# Altium footprint library PCBLibrary.PcbLib: 38 footprints (part 1 of 3)
Each footprint in its own frame and in the unit in brackets; x right, y up, seen from the top. Pads: shape width x height; smd on the part's side, far side on the other; paste and mask are expansions set on the pad; w line width, h text height; cw(c..) or ccw(c..) is an arc to the next point about the centre after c.
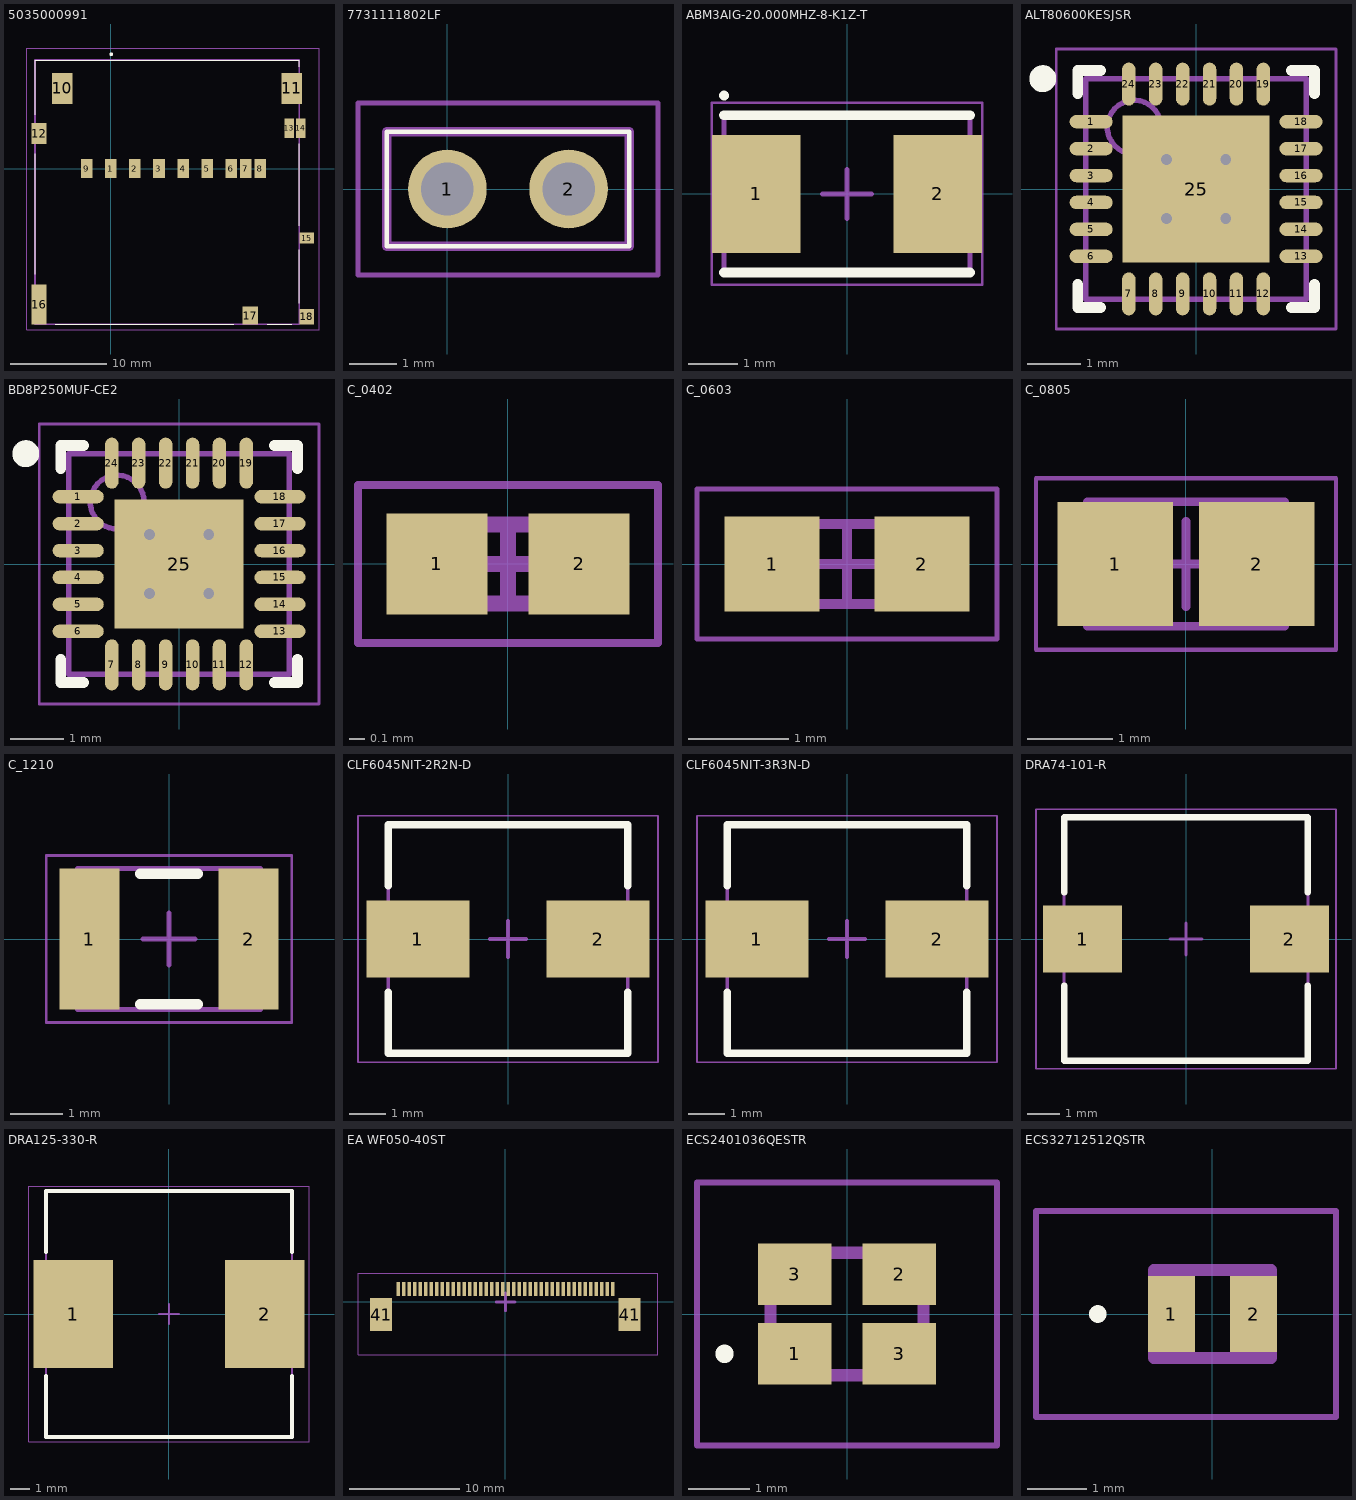
[diagram p0: the footprints below, top view; thin cyan lines are the x and y axes]

## 5035000991 [mm]
pads (18):
  rect 1.2x1.95 smd: 1(0,0) 2(2.5,0) 3(5,0) 4(7.5,0) 5(10,0) 6(12.5,0) 7(14,0) 8(15.5,0) 9(-2.5,0)
  rect 2.1x3.2 smd: 10(-5.025,8.305) 11(18.775,8.305)
  rect 1.55x2.2 smd: 12(-7.43,3.625)
  rect 1x2 smd: 13(18.495,4.165) 14(19.695,4.165)
  rect 1.5x1.1 smd: 15(20.345,-7.205)
  rect 1.55x4.17 smd: 16(-7.43,-14.11)
  rect 1.6x1.87 smd: 17(14.475,-15.26)
  rect 1.5x1.65 smd: 18(20.345,-15.37)
Top Overlay:
  lines w0.1: -7.855,-10.945 -7.855,1.555 ; -7.855,5.555 -7.855,11.255 19.545,11.255 19.545,10.555 ; -5.755,-16.145 12.745,-16.145 ; 16.245,-16.145 18.775,-16.145 ; 19.545,-13.945 19.545,-8.445 ; 19.545,-5.945 19.545,2.555
  lines w0.2: -0.055,11.855 cw(c0.045,11.855) 0.145,11.855 cw(c0.045,11.855) -0.055,11.855
Mechanical 13:
  lines w0.2: -7.855,-16.145 -7.855,11.255 19.545,11.255 19.545,-16.145 -7.855,-16.145
Mechanical 15:
  lines w0.1: -8.705,-16.695 -8.705,12.455 21.595,12.455 21.595,-16.695 -8.705,-16.695
3D body "5035000991.stp": height 3, standoff 0.05, extent -7.85,-15.84 20.75,11.96

## 7731111802LF [mm]
pads (2):
  round 1.65 hole 1.1: 1(0,0) 2(2.54,0)
Top Overlay:
  lines w0.1: -1.27,-1.2 3.81,-1.2 3.81,1.2 -1.27,1.2 -1.27,-1.2
Mechanical 13:
  lines w0.2: -1.27,-1.2 3.81,-1.2 3.81,1.2 -1.27,1.2 -1.27,-1.2
Mechanical 15:
  lines w0.1: -1.87,-1.8 4.41,-1.8 4.41,1.8 -1.87,1.8 -1.87,-1.8
3D body "77311-118-02LF.stp": height 9.04, standoff -5, extent -1.27,-1.2 3.81,1.2

## ABM3AIG-20.000MHZ-8-K1Z-T [mm] "DFN, 2-Leads, Body 3,20x5,00mm, Pitch 3,70mm, IPC Medium Density"
height 1.55
pads (2):
  rect 1.8x2.4 smd: 1(-1.85,0) 2(1.85,0)
Top Overlay:
  circle w0.1: c-2.5,2 r0.05
  lines w0.2: -2.5,-1.6 2.5,-1.6 ; -2.5,1.6 2.5,1.6
Mechanical 13:
  lines w0.1: -2.5,-1.6 -2.5,1.6 2.5,1.6 2.5,-1.6 -2.5,-1.6
Mechanical 15:
  lines w0.05: -2.75,-1.85 -2.75,1.85 2.75,1.85 2.75,-1.85 -2.75,-1.85
  lines w0.1: -0.5,0 0.5,0 ; 0,-0.5 0,0.5
3D body "ABM3AIG-20.000MHZ-8-K1Z-T.step": height 1.55, standoff 0, extent -2.5,-1.6 2.5,1.6

## ALT80600KESJSR [mm]
height 0.8
pads (25):
  oval 0.8x0.25 smd: 1(-1.95,1.25) 2(-1.95,0.75) 3(-1.95,0.25) 4(-1.95,-0.25) 5(-1.95,-0.75) 6(-1.95,-1.25) 13(1.95,-1.25) 14(1.95,-0.75) 15(1.95,-0.25) 16(1.95,0.25) 17(1.95,0.75) 18(1.95,1.25)
  oval 0.25x0.8 smd: 7(-1.25,-1.95) 8(-0.75,-1.95) 9(-0.25,-1.95) 10(0.25,-1.95) 11(0.75,-1.95) 12(1.25,-1.95) 19(1.25,1.95) 20(0.75,1.95) 21(0.25,1.95) 22(-0.25,1.95) 23(-0.75,1.95) 24(-1.25,1.95)
  rect 2.73x2.73 smd: 25(0,0)
via -0.55,0.55 diameter 0.5 hole 0.2
via 0.55,0.55 diameter 0.5 hole 0.2
via -0.55,-0.55 diameter 0.5 hole 0.2
via 0.55,-0.55 diameter 0.5 hole 0.2
Top Overlay:
  circle w0.25: c-2.85,2.05 r0.125
  lines w0.2: -2.2,-1.775 -2.2,-2.2 -1.775,-2.2 ; -2.2,1.775 -2.2,2.2 -1.775,2.2 ; 1.775,-2.2 2.2,-2.2 2.2,-1.775 ; 1.775,2.2 2.2,2.2 2.2,1.775
Mechanical 13:
  circle w0.1: c-1.15,1.15 r0.5
  lines w0.1: -2.05,-2.05 -2.05,2.05 2.05,2.05 2.05,-2.05 -2.05,-2.05
Mechanical 15:
  lines w0.05: -2.6,-2.6 -2.6,2.6 2.6,2.6 2.6,-2.6 -2.6,-2.6
  lines w0.1: -0.5,0 0.5,0 ; 0,-0.5 0,0.5
3D body "ALT80600KESJSR.step": height 0.8, standoff 0, extent -2.1,-2.1 2.1,2.1

## BD8P250MUF-CE2 [mm]
height 1
pads (25):
  oval 0.95x0.25 smd: 1(-1.875,1.25) 2(-1.875,0.75) 3(-1.875,0.25) 4(-1.875,-0.25) 5(-1.875,-0.75) 6(-1.875,-1.25) 13(1.875,-1.25) 14(1.875,-0.75) 15(1.875,-0.25) 16(1.875,0.25) 17(1.875,0.75) 18(1.875,1.25)
  oval 0.25x0.95 smd: 7(-1.25,-1.875) 8(-0.75,-1.875) 9(-0.25,-1.875) 10(0.25,-1.875) 11(0.75,-1.875) 12(1.25,-1.875) 19(1.25,1.875) 20(0.75,1.875) 21(0.25,1.875) 22(-0.25,1.875) 23(-0.75,1.875) 24(-1.25,1.875)
  rect 2.4x2.4 smd: 25(0,0)
via -0.55,0.55 diameter 0.5 hole 0.2
via 0.55,0.55 diameter 0.5 hole 0.2
via -0.55,-0.55 diameter 0.5 hole 0.2
via 0.55,-0.55 diameter 0.5 hole 0.2
Top Overlay:
  circle w0.25: c-2.85,2.05 r0.125
  lines w0.2: -2.2,-1.775 -2.2,-2.2 -1.775,-2.2 ; -2.2,1.775 -2.2,2.2 -1.775,2.2 ; 1.775,-2.2 2.2,-2.2 2.2,-1.775 ; 1.775,2.2 2.2,2.2 2.2,1.775
Mechanical 13:
  circle w0.1: c-1.15,1.15 r0.5
  lines w0.1: -2.05,-2.05 -2.05,2.05 2.05,2.05 2.05,-2.05 -2.05,-2.05
Mechanical 15:
  lines w0.05: -2.6,-2.6 -2.6,2.6 2.6,2.6 2.6,-2.6 -2.6,-2.6
  lines w0.1: -0.5,0 0.5,0 ; 0,-0.5 0,0.5
3D body "BD8P250MUF-CE2.step": height 1, standoff 0, extent -2.15,-2.15 2.15,2.15

## C_0402 [mm] "Chip Capacitor, 2-Leads, Body 1,00x0,50mm, IPC Medium Density"
height 0.5
pads (2):
  rect 0.64x0.64 smd: 1(-0.45,0) 2(0.45,0)
Mechanical 13:
  lines w0.1: -0.5,-0.25 -0.5,0.25 0.5,0.25 0.5,-0.25 -0.5,-0.25
Mechanical 15:
  lines w0.05: -0.95,-0.5 -0.95,0.5 0.95,0.5 0.95,-0.5 -0.95,-0.5
  lines w0.1: -0.25,0 0.25,0 ; 0,-0.25 0,0.25
3D body "C_0402.step": height 0.5, standoff 0, extent -0.5,-0.25 0.5,0.25

## C_0603 [mm]
height 0.8
pads (2):
  rect 0.95x0.95 smd: 1(-0.75,0) 2(0.75,0)
Mechanical 13:
  lines w0.1: -0.8,-0.4 0.8,-0.4 0.8,0.4 -0.8,0.4 -0.8,-0.4
Mechanical 15:
  lines w0.05: -1.5,-0.75 1.5,-0.75 1.5,0.75 -1.5,0.75 -1.5,-0.75
  lines w0.1: -0.4,0 0.4,0 ; 0,-0.4 0,0.4
3D body: height 0.8, standoff 0, extent 0.45,-0.4 0.8,0.4
3D body: height 0.8, standoff 0, extent -0.8,-0.4 -0.45,0.4
3D body: height 0.8, standoff 0, extent -0.45,-0.4 0.45,0.4

## C_0805 [mm]
height 1.45
pads (2):
  rect 1.35x1.45 smd: 1(-0.825,0) 2(0.825,0)
Mechanical 13:
  lines w0.1: -1.15,-0.725 -1.15,0.725 1.15,0.725 1.15,-0.725 -1.15,-0.725
Mechanical 15:
  lines w0.05: -1.75,-1 -1.75,1 1.75,1 1.75,-1 -1.75,-1
  lines w0.1: -0.5,0 0.5,0 ; 0,-0.5 0,0.5
3D body "C_0805.step": height 1.45, standoff 0, extent -1.15,-0.725 1.15,0.725

## C_1210 [mm]
height 2.7
pads (2):
  rect 1.15x2.7 smd: 1(-1.525,0) 2(1.525,0)
Top Overlay:
  lines w0.2: -0.55,-1.25 0.55,-1.25 ; -0.55,1.25 0.55,1.25
Mechanical 13:
  lines w0.1: -1.75,-1.35 1.75,-1.35 1.75,1.35 -1.75,1.35 -1.75,-1.35
Mechanical 15:
  lines w0.05: -2.35,-1.6 2.35,-1.6 2.35,1.6 -2.35,1.6 -2.35,-1.6
  lines w0.1: -0.5,0 0.5,0 ; 0,-0.5 0,0.5
3D body "C_1210.step": height 2.7, standoff 0, extent -1.75,-1.35 1.75,1.35

## CLF6045NIT-2R2N-D [mm] "Precision Wire Wound Inductor, 2-Leads, Body 6,30x6,00mm, IPC Medium Density"
height 4.8
pads (2):
  rect 2.8x2.1 smd: 1(-2.45,0) 2(2.45,0)
Top Overlay:
  lines w0.2: -3.25,-1.45 -3.25,-3.1 3.25,-3.1 3.25,-1.45 ; -3.25,1.45 -3.25,3.1 3.25,3.1 3.25,1.45
Mechanical 13:
  lines w0.1: -3.25,-3.1 3.25,-3.1 3.25,3.1 -3.25,3.1 -3.25,-3.1
Mechanical 15:
  lines w0.05: -4.075,-3.35 4.075,-3.35 4.075,3.35 -4.075,3.35 -4.075,-3.35
  lines w0.1: -0.5,0 0.5,0 ; 0,-0.5 0,0.5
3D body "CLF6045NIT-2R2N-D.step": height 4.9, standoff 0, extent -3.25,-3 3.25,3

## CLF6045NIT-3R3N-D [mm] "Precision Wire Wound Inductor, 2-Leads, Body 6,30x6,00mm, IPC Medium Density"
height 4.8
pads (2):
  rect 2.8x2.1 smd: 1(-2.45,0) 2(2.45,0)
Top Overlay:
  lines w0.2: -3.25,-1.45 -3.25,-3.1 3.25,-3.1 3.25,-1.45 ; -3.25,1.45 -3.25,3.1 3.25,3.1 3.25,1.45
Mechanical 13:
  lines w0.1: -3.25,-3.1 -3.25,3.1 3.25,3.1 3.25,-3.1 -3.25,-3.1
Mechanical 15:
  lines w0.05: -4.075,-3.35 -4.075,3.35 4.075,3.35 4.075,-3.35 -4.075,-3.35
  lines w0.1: -0.5,0 0.5,0 ; 0,-0.5 0,0.5
3D body "CLF6045NIT-2R2N-D.step": height 4.9, standoff 0, extent -3.25,-3 3.25,3

## DRA74-101-R [mm]
height 4.35
pads (2):
  rect 2.45x2.1 smd: 1(-3.225,0) 2(3.225,0)
Top Overlay:
  lines w0.2: -3.8,-1.45 -3.8,-3.8 3.8,-3.8 3.8,-1.45 ; -3.8,1.45 -3.8,3.8 3.8,3.8 3.8,1.45
Mechanical 13:
  lines w0.1: -3.8,-3.8 3.8,-3.8 3.8,3.8 -3.8,3.8 -3.8,-3.8
Mechanical 15:
  lines w0.05: -4.675,-4.05 4.675,-4.05 4.675,4.05 -4.675,4.05 -4.675,-4.05
  lines w0.1: -0.5,0 0.5,0 ; 0,-0.5 0,0.5
3D body "DRA74-101-R.step": height 4.45, standoff 0, extent -3.9,-3.8 3.9,3.8

## DRA125-330-R [mm] "33uH Inductor"
height 6
pads (2):
  rect 4.05x5.5 smd: 1(-4.875,0) 2(4.875,0)
Top Overlay:
  lines w0.2: -6.25,-3.15 -6.25,-6.25 6.25,-6.25 6.25,-3.15 ; -6.25,3.15 -6.25,6.25 6.25,6.25 6.25,3.15
Mechanical 13:
  lines w0.1: -6.25,-6.25 -6.25,6.25 6.25,6.25 6.25,-6.25 -6.25,-6.25
Mechanical 15:
  lines w0.05: -7.125,-6.5 -7.125,6.5 7.125,6.5 7.125,-6.5 -7.125,-6.5
  lines w0.1: -0.5,0 0.5,0 ; 0,-0.5 0,0.5
3D body "DRA125-330-R.step": height 6.1, standoff 0, extent -6.35,-6.25 6.35,6.25

## EA WF050-40ST [mm] "40 Pin FPC Connector"
pads (42):
  rect 0.3x1.25 smd paste-2539.97 mask+0.102: 1(-9.75,1.163) 2(-9.25,1.163) 3(-8.75,1.163) 4(-8.25,1.163) 5(-7.75,1.163) 6(-7.25,1.163) 7(-6.75,1.163) 8(-6.25,1.163) 9(-5.75,1.163) 10(-5.25,1.163) 11(-4.75,1.163) 12(-4.25,1.163) 13(-3.75,1.163) 14(-3.25,1.163) 15(-2.75,1.163) 16(-2.25,1.163) 17(-1.75,1.163) 18(-1.25,1.163) 19(-0.75,1.163) 20(-0.25,1.163) 21(0.25,1.163) 22(0.75,1.163) 23(1.25,1.163) 24(1.75,1.163) 25(2.25,1.163) 26(2.75,1.163) 27(3.25,1.163) 28(3.75,1.163) 29(4.25,1.163) 30(4.75,1.163) 31(5.25,1.163) 32(5.75,1.163) 33(6.25,1.163) 34(6.75,1.163) 35(7.25,1.163) 36(7.75,1.163) 37(8.25,1.163) 38(8.75,1.163) 39(9.25,1.163) 40(9.75,1.163)
  rect 2x3 smd paste-2539.97 mask+0.102: 41(-11.3,-1.162) 41(11.3,-1.162)
Mechanical 15:
  lines w0.05: -13.4,-4.8 13.875,-4.8 13.875,2.6 -13.4,2.6 -13.4,-4.8
  lines w0.254: -0.825,0 0.25,0 0.875,0 ; 0,-0.8 0,0.8
3D body: height 2, standoff 0, extent -12.775,-4.025 12.725,0.475

## ECS2401036QESTR [mm]
pads (4):
  rect 1.2x1 smd: 1(-0.85,-0.65) 2(0.85,0.65) 3(-0.85,0.65) 3(0.85,-0.65)
Top Overlay:
  lines w0.2: -2,-0.7 ccw(c-2,-0.65) -2,-0.6 ; -2,-0.7 cw(c-2,-0.65) -2,-0.6 ; -2,-0.7 ccw(c-2,-0.65) -2,-0.6
Mechanical 13:
  lines w0.2: -1.25,-1 1.25,-1 1.25,1 -1.25,1 -1.25,-1
Mechanical 15:
  lines w0.1: -2.45,-2.15 2.45,-2.15 2.45,2.15 -2.45,2.15 -2.45,-2.15
3D body "ECS-240-10-36Q-ES-TR.stp": height 0.7, standoff 0, extent -1.35,-1.05 1.35,1.05

## ECS32712512QSTR [mm]
pads (2):
  rect 0.8x1.3 smd: 1(-0.7,0) 2(0.7,0)
Top Overlay:
  lines w0.2: -2,0 ccw(c-1.95,0) -1.9,0 ; -2,0 cw(c-1.95,0) -1.9,0 ; -2,0 ccw(c-1.95,0) -1.9,0
Mechanical 13:
  lines w0.2: -1,-0.75 -1,0.75 1,0.75 1,-0.75 -1,-0.75
Mechanical 15:
  lines w0.1: -3,-1.75 -3,1.75 2.1,1.75 2.1,-1.75 -3,-1.75
3D body "ECS-.327-12.5-12QS-TR.stp": height 0.7, standoff 0, extent -1.02,-0.75 1.02,0.75